# EAGLE library part 1775862-2 (library IoTMakers)
Conn Card Edge SKT 52 POS 0.8mm Solder RA SMD T/R
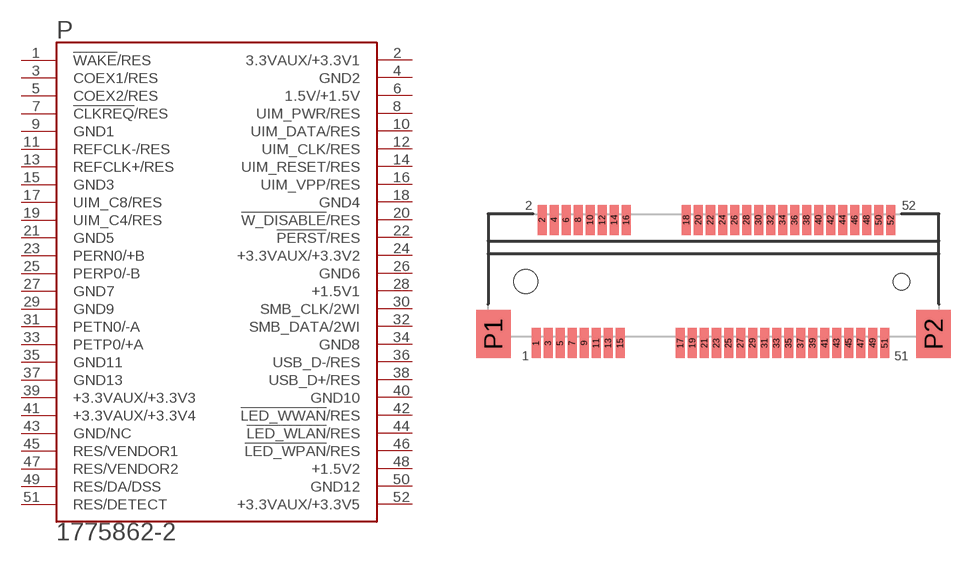
[diagram p26: symbol with the pads of TE_1775862-2; footprint TE_1775862-2]

Designator prefix P

## 1775862-2 (AVAILABILITY: Unavailable; CENTERLINE_PITCH: .8 mm[.031 in]; COMMENT: 1775862-2; DESCRIPTION: mSATA/mini PCI-E 5.2H Type I G/F; EU_ROHS_COMPLIANCE: Compliant; LINK: http://www.te.com/usa-en/product-1775862-2.html; MF: TE Connectivity; MP: 1775862-2; NUMBER_OF_POSITIONS: 52; PACKAGE: None; PRICE: None; PRODUCT_TYPE: Connector)  [TE_1775862-2]
1  !WAKE!/RES
2  3.3VAUX/+3.3V1  pwr
3  COEX1/RES
4  GND2  pwr
5  COEX2/RES
6  1.5V/+1.5V  pwr
7  !CLKREQ!/RES
8  UIM_PWR/RES
9  GND1  pwr
10  UIM_DATA/RES
11  REFCLK-/RES
12  UIM_CLK/RES
13  REFCLK+/RES
14  UIM_RESET/RES
15  GND3  pwr
16  UIM_VPP/RES
17  UIM_C8/RES
18  GND4  pwr
19  UIM_C4/RES
20  !W_DISABLE!/RES  pas
21  GND5  pwr
22  !PERST!/RES  pas
23  PERN0/+B
24  +3.3VAUX/+3.3V2  pwr
25  PERP0/-B
26  GND6  pwr
27  GND7  pwr
28  +1.5V1  pwr
29  GND9  pwr
30  SMB_CLK/2WI
31  PETN0/-A
32  SMB_DATA/2WI
33  PETP0/+A
34  GND8  pwr
35  GND11  pwr
36  USB_D-/RES
37  GND13  pwr
38  USB_D+/RES
39  +3.3VAUX/+3.3V3  pwr
40  GND10  pwr
41  +3.3VAUX/+3.3V4  pwr
42  !LED_WWAN!/RES  pas
43  GND/NC  pwr
44  !LED_WLAN!/RES  pas
45  RES/VENDOR1
46  !LED_WPAN!/RES  pas
47  RES/VENDOR2
48  +1.5V2  pwr
49  RES/DA/DSS
50  GND12  pwr
51  RES/DETECT
52  +3.3VAUX/+3.3V5  pwr

## Footprint TE_1775862-2 (pad centres in mm)
smd 0.6 x 2: 1 -11.8,-4.1; 2 -11.4,4.1; 3 -11,-4.1; 4 -10.6,4.1; 5 -10.2,-4.1; 6 -9.8,4.1; 7 -9.4,-4.1; 8 -9,4.1; 9 -8.6,-4.1; 10 -8.2,4.1; 11 -7.8,-4.1; 12 -7.4,4.1; 13 -7,-4.1; 14 -6.6,4.1; 15 -6.2,-4.1; 16 -5.8,4.1; 17 -2.2,-4.1; 18 -1.8,4.1; 19 -1.4,-4.1; 20 -1,4.1; 21 -0.6,-4.1; 22 -0.2,4.1; 23 0.2,-4.1; 24 0.6,4.1; 25 1,-4.1; 26 1.4,4.1; 27 1.8,-4.1; 28 2.2,4.1; 29 2.6,-4.1; 30 3,4.1; 31 3.4,-4.1; 32 3.8,4.1; 33 4.2,-4.1; 34 4.6,4.1; 35 5,-4.1; 36 5.4,4.1; 37 5.8,-4.1; 38 6.2,4.1; 39 6.6,-4.1; 40 7,4.1; 41 7.4,-4.1; 42 7.8,4.1; 43 8.2,-4.1; 44 8.6,4.1; 45 9,-4.1; 46 9.4,4.1; 47 9.8,-4.1; 48 10.2,4.1; 49 10.6,-4.1; 50 11,4.1; 51 11.4,-4.1; 52 11.8,4.1
smd 2.3 x 3.2: P1 -14.65,-3.5; P2 14.65,-3.5
hole 1.6 at -12.5,0
hole 1.1 at 12.5,0